# Altium schematic symbol library VBlib_Anthennas.SchLib: 3 symbols
Pins are listed as number, name and electrical type; pins without a type are passive.

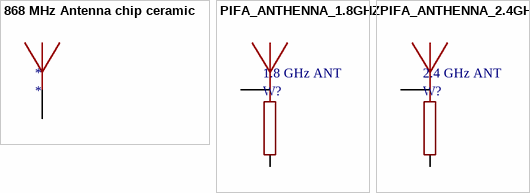
[diagram p0: symbols 868 MHz Antenna chip ceramic to PIFA_ANTHENNA_2.4GHZ]

## 868 MHz Antenna chip ceramic
designator *
footprint 868_chip
pins: 1

## PIFA_ANTHENNA_1.8GHZ
designator 1.8 GHz ANT, comment W?  (no BOM)
1.8 GHz PCB Trace WI-FI Anthenna 50 Ohm
footprint PIFA_1800MHz (WIFI PCB Antenna mod.2)
pins: 1, 2

## PIFA_ANTHENNA_2.4GHZ
designator 2.4 GHz ANT, comment W?  (no BOM)
2.4 GHz PCB Trace WI-FI Anthenna 50 Ohm
footprint PIFA_2.4MHz (WIFI PCB Antenna mod.2)
footprint PIFA_WIFI_3
pins: 1, 2